# Altium integrated library Microchip Microcontroller 8-Bit PIC16 2.IntLib: 1656 symbols (part 44 of 56)
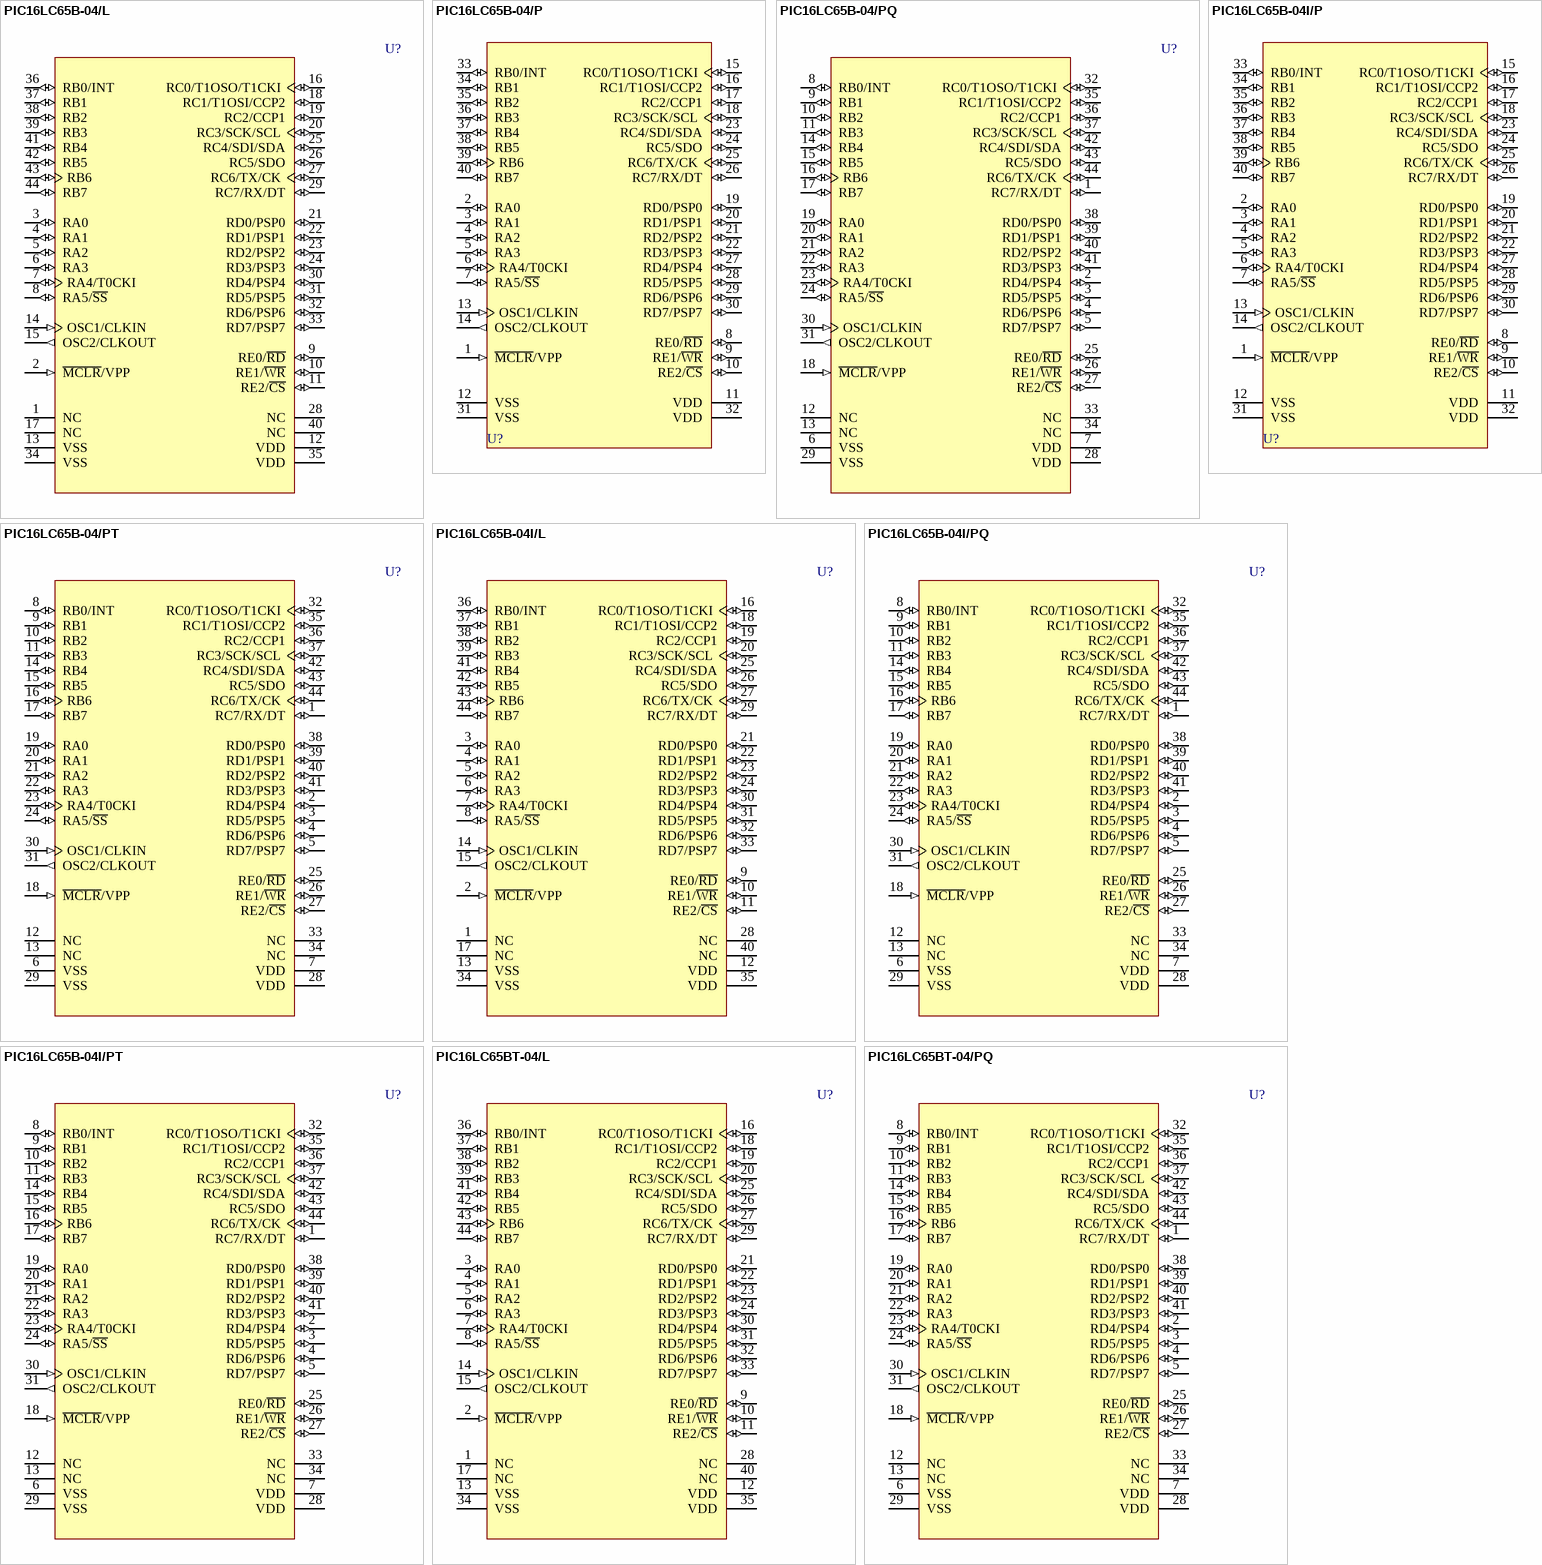
[diagram p151: symbols PIC16LC65B-04/L to PIC16LC65BT-04/PQ]

## PIC16LC65B-04/L
designator U?
8-Bit CMOS Microcontroller, 192 Bytes RAM, 33 I/O Pins, 4 MHz, 44-Pin PLCC, Extended VDD Range, Commercial Temperature; Note: Verify oscillator characteristics if changing from this device to another.; Note: 2.5 to 5.5V Supply Range in XT, RC and LP osc modes.; Note: 25mA source/sink per I/O.; Published: 11-Oct-2004; LatestRevisionDate: 13-Apr-2006; LatestRevisionNote: IPC-7351 Footprint Added.; DatasheetVersion: DS30605C_2000; PackageVersion: 2003; PackageReference: PLCC-44; Publisher: Altium Limited; PackageDescription: 44-Pin Leaded Chip Carrier 1.27 mm Pitch; Code_JEDEC: MO-047; Code_IPC: PLCC-44; ComponentLink1Description: Manufacturer Link; ComponentLink1URL: http://www.microchip.com; ComponentLink2Description: Datasheet; ComponentLink2URL: http://ww1.microchip.com/downloads/en/DeviceDoc/30605c.pdf; ComponentLink3Description: Packaging Specification; ComponentLink3URL: http://ww1.microchip.com/downloads/en/PackagingSpec/00049AD.pdf
footprint PLCC-44_N (Leaded Chip Carrier, 44-Leads, Body 16.6x16.6mm, Pitch 1.27mm, IPC Medium Density)
footprint PLCC-44_L (Leaded Chip Carrier, 44-Leads, Body 16.6x16.6mm, Pitch 1.27mm, IPC High Density)
footprint PLCC-44_M (Leaded Chip Carrier, 44-Leads, Body 16.6x16.6mm, Pitch 1.27mm, IPC Low Density)
3D model PIC16LC65B-PLCC-44 (44-Pin Leaded Chip Carrier 1.27 mm Pitch)
pins: 1 NC, 2 ~{MCLR}/VPP (in), 3 RA0 (io), 4 RA1 (io), 5 RA2 (io), 6 RA3 (io), 7 RA4/T0CKI (io), 8 RA5/~{SS} (io), 9 RE0/~{RD} (io), 10 RE1/~{WR} (io), 11 RE2/~{CS} (io), 12 VDD (power), 13 VSS (power), 14 OSC1/CLKIN (in), 15 OSC2/CLKOUT (out), 16 RC0/T1OSO/T1CKI (io), 17 NC, 18 RC1/T1OSI/CCP2 (io), 19 RC2/CCP1 (io), 20 RC3/SCK/SCL (io), 21 RD0/PSP0 (io), 22 RD1/PSP1 (io), 23 RD2/PSP2 (io), 24 RD3/PSP3 (io), 25 RC4/SDI/SDA (io), 26 RC5/SDO (io), 27 RC6/TX/CK (io), 28 NC, 29 RC7/RX/DT (io), 30 RD4/PSP4 (io), 31 RD5/PSP5 (io), 32 RD6/PSP6 (io), 33 RD7/PSP7 (io), 34 VSS (power), 35 VDD (power), 36 RB0/INT (io), 37 RB1 (io), 38 RB2 (io), 39 RB3 (io), 40 NC, 41 RB4 (io), 42 RB5 (io), 43 RB6 (io), 44 RB7 (io)

## PIC16LC65B-04/P
designator U?
8-Bit CMOS Microcontroller, 192 Bytes RAM, 33 I/O Pins, 4 MHz, 40-Pin PDIP, Extended VDD Range, Commercial Temperature; Note: Verify oscillator characteristics if changing from this device to another.; Note: 2.5 to 5.5V Supply Range in XT, RC and LP osc modes.; Note: 25mA source/sink per I/O.; Published: 11-Oct-2004; LatestRevisionDate: 04-Mar-2005; LatestRevisionNote: Stylized 3D Model Added.; DatasheetVersion: DS30605C_2000; PackageVersion: 2003; PackageReference: PDIP600-40; Publisher: Altium Limited; PackageDescription: DIP, Plastic; 40 Leads; Row Spacing 15.24 mm; Pitch 2.54 mm; Code_JEDEC: MO-011; ComponentLink1Description: Manufacturer Link; ComponentLink1URL: http://www.microchip.com; ComponentLink2Description: Datasheet; ComponentLink2URL: http://ww1.microchip.com/downloads/en/DeviceDoc/30605c.pdf; ComponentLink3Description: Packaging Specification; ComponentLink3URL: http://ww1.microchip.com/downloads/en/PackagingSpec/00049AD.pdf
footprint PDIP600-40 (DIP, Plastic; 40 Leads; Row Spacing 15.24 mm; Pitch 2.54 mm)
3D model PDIP600-40 (DIP, Plastic; 40 Leads; Row Spacing 15.24 mm; Pitch 2.54 mm)
pins: 1 ~{MCLR}/VPP (in), 2 RA0 (io), 3 RA1 (io), 4 RA2 (io), 5 RA3 (io), 6 RA4/T0CKI (io), 7 RA5/~{SS} (io), 8 RE0/~{RD} (io), 9 RE1/~{WR} (io), 10 RE2/~{CS} (io), 11 VDD (power), 12 VSS (power), 13 OSC1/CLKIN (in), 14 OSC2/CLKOUT (out), 15 RC0/T1OSO/T1CKI (io), 16 RC1/T1OSI/CCP2 (io), 17 RC2/CCP1 (io), 18 RC3/SCK/SCL (io), 19 RD0/PSP0 (io), 20 RD1/PSP1 (io), 21 RD2/PSP2 (io), 22 RD3/PSP3 (io), 23 RC4/SDI/SDA (io), 24 RC5/SDO (io), 25 RC6/TX/CK (io), 26 RC7/RX/DT (io), 27 RD4/PSP4 (io), 28 RD5/PSP5 (io), 29 RD6/PSP6 (io), 30 RD7/PSP7 (io), 31 VSS (power), 32 VDD (power), 33 RB0/INT (io), 34 RB1 (io), 35 RB2 (io), 36 RB3 (io), 37 RB4 (io), 38 RB5 (io), 39 RB6 (io), 40 RB7 (io)

## PIC16LC65B-04/PQ
designator U?
8-Bit CMOS Microcontroller, 192 Bytes RAM, 33 I/O Pins, 4 MHz, 44-Pin MQFP, Extended VDD Range, Commercial Temperature; Note: Verify oscillator characteristics if changing from this device to another.; Note: 2.5 to 5.5V Supply Range in XT, RC and LP osc modes.; Note: 25mA source/sink per I/O.; Published: 11-Oct-2004; LatestRevisionDate: 13-Apr-2006; LatestRevisionNote: IPC-7351 Footprint Added.; DatasheetVersion: DS30605C_2000; PackageVersion: 2003; PackageReference: MQFP-44; Publisher: Altium Limited; PackageDescription: 44-Pin Plastic Metric Quad Flat Pack 0.8 mm Pitch, 1.6/0.15 mm Lead Form; Code_JEDEC: MS-022; Code_IPC: QFP80P1320X1320-44; ComponentLink1Description: Manufacturer Link; ComponentLink1URL: http://www.microchip.com; ComponentLink2Description: Datasheet; ComponentLink2URL: http://ww1.microchip.com/downloads/en/DeviceDoc/30605c.pdf; ComponentLink3Description: Packaging Specification; ComponentLink3URL: http://ww1.microchip.com/downloads/en/PackagingSpec/00049AD.pdf
footprint MQFP-44_N (QFP, 44-Leads, Body 10x10mm, Pitch 0.8mm, IPC Medium Density)
footprint MQFP-44_L (QFP, 44-Leads, Body 10x10mm, Pitch 0.8mm, IPC High Density)
footprint MQFP-44_M (QFP, 44-Leads, Body 10x10mm, Pitch 0.8mm, IPC Low Density)
3D model PIC16LC65B-MQFP-44 (44-Pin Plastic Metric Quad Flat Pack 0.8 mm Pitch, 1.6/0.15 mm Lead Form)
pins: 1 RC7/RX/DT (io), 2 RD4/PSP4 (io), 3 RD5/PSP5 (io), 4 RD6/PSP6 (io), 5 RD7/PSP7 (io), 6 VSS (power), 7 VDD (power), 8 RB0/INT (io), 9 RB1 (io), 10 RB2 (io), 11 RB3 (io), 12 NC, 13 NC, 14 RB4 (io), 15 RB5 (io), 16 RB6 (io), 17 RB7 (io), 18 ~{MCLR}/VPP (in), 19 RA0 (io), 20 RA1 (io), 21 RA2 (io), 22 RA3 (io), 23 RA4/T0CKI (io), 24 RA5/~{SS} (io), 25 RE0/~{RD} (io), 26 RE1/~{WR} (io), 27 RE2/~{CS} (io), 28 VDD (power), 29 VSS (power), 30 OSC1/CLKIN (in), 31 OSC2/CLKOUT (out), 32 RC0/T1OSO/T1CKI (io), 33 NC, 34 NC, 35 RC1/T1OSI/CCP2 (io), 36 RC2/CCP1 (io), 37 RC3/SCK/SCL (io), 38 RD0/PSP0 (io), 39 RD1/PSP1 (io), 40 RD2/PSP2 (io), 41 RD3/PSP3 (io), 42 RC4/SDI/SDA (io), 43 RC5/SDO (io), 44 RC6/TX/CK (io)

## PIC16LC65B-04/PT
designator U?
8-Bit CMOS Microcontroller, 192 Bytes RAM, 33 I/O Pins, 4 MHz, 44-Pin TQFP, Extended VDD Range, Commercial Temperature; Note: Verify oscillator characteristics if changing from this device to another.; Note: 2.5 to 5.5V Supply Range in XT, RC and LP osc modes.; Note: 25mA source/sink per I/O.; Published: 11-Oct-2004; LatestRevisionDate: 13-Apr-2006; LatestRevisionNote: IPC-7351 Footprint Added.; DatasheetVersion: DS30605C_2000; PackageVersion: 2003; PackageReference: TQFP-44; Publisher: Altium Limited; PackageDescription: 44-Pin Thin Quad Flat Pack 0.8 mm Pitch, 1.0/0.1 mm Lead Form; Code_JEDEC: MS-026; ComponentLink1Description: Manufacturer Link; ComponentLink1URL: http://www.microchip.com; ComponentLink2Description: Datasheet; ComponentLink2URL: http://ww1.microchip.com/downloads/en/DeviceDoc/30605c.pdf; ComponentLink3Description: Packaging Specification; ComponentLink3URL: http://ww1.microchip.com/downloads/en/PackagingSpec/00049AD.pdf
footprint TQFP-44_N (Thin QFP, 44-Leads, Body 10x10mm, Pitch 0.8mm, IPC Medium Density)
footprint TQFP-44_L (Thin QFP, 44-Leads, Body 10x10mm, Pitch 0.8mm, IPC High Density)
footprint TQFP-44_M (Thin QFP, 44-Leads, Body 10x10mm, Pitch 0.8mm, IPC Low Density)
3D model PIC16LC65B-TQFP-44 (44-Pin Thin Quad Flat Pack 0.8 mm Pitch, 1.0/0.1 mm Lead Form)
pins: 1 RC7/RX/DT (io), 2 RD4/PSP4 (io), 3 RD5/PSP5 (io), 4 RD6/PSP6 (io), 5 RD7/PSP7 (io), 6 VSS (power), 7 VDD (power), 8 RB0/INT (io), 9 RB1 (io), 10 RB2 (io), 11 RB3 (io), 12 NC, 13 NC, 14 RB4 (io), 15 RB5 (io), 16 RB6 (io), 17 RB7 (io), 18 ~{MCLR}/VPP (in), 19 RA0 (io), 20 RA1 (io), 21 RA2 (io), 22 RA3 (io), 23 RA4/T0CKI (io), 24 RA5/~{SS} (io), 25 RE0/~{RD} (io), 26 RE1/~{WR} (io), 27 RE2/~{CS} (io), 28 VDD (power), 29 VSS (power), 30 OSC1/CLKIN (in), 31 OSC2/CLKOUT (out), 32 RC0/T1OSO/T1CKI (io), 33 NC, 34 NC, 35 RC1/T1OSI/CCP2 (io), 36 RC2/CCP1 (io), 37 RC3/SCK/SCL (io), 38 RD0/PSP0 (io), 39 RD1/PSP1 (io), 40 RD2/PSP2 (io), 41 RD3/PSP3 (io), 42 RC4/SDI/SDA (io), 43 RC5/SDO (io), 44 RC6/TX/CK (io)

## PIC16LC65B-04I/L
designator U?
8-Bit CMOS Microcontroller, 192 Bytes RAM, 33 I/O Pins, 4 MHz, 44-Pin PLCC, Extended VDD Range, Industrial Temperature; Note: Verify oscillator characteristics if changing from this device to another.; Note: 2.5 to 5.5V Supply Range in XT, RC and LP osc modes.; Note: 25mA source/sink per I/O.; Published: 11-Oct-2004; LatestRevisionDate: 13-Apr-2006; LatestRevisionNote: IPC-7351 Footprint Added.; DatasheetVersion: DS30605C_2000; PackageVersion: 2003; PackageReference: PLCC-44; Publisher: Altium Limited; PackageDescription: 44-Pin Leaded Chip Carrier 1.27 mm Pitch; Code_JEDEC: MO-047; Code_IPC: PLCC-44; ComponentLink1Description: Manufacturer Link; ComponentLink1URL: http://www.microchip.com; ComponentLink2Description: Datasheet; ComponentLink2URL: http://ww1.microchip.com/downloads/en/DeviceDoc/30605c.pdf; ComponentLink3Description: Packaging Specification; ComponentLink3URL: http://ww1.microchip.com/downloads/en/PackagingSpec/00049AD.pdf
footprint PLCC-44_N (Leaded Chip Carrier, 44-Leads, Body 16.6x16.6mm, Pitch 1.27mm, IPC Medium Density)
footprint PLCC-44_L (Leaded Chip Carrier, 44-Leads, Body 16.6x16.6mm, Pitch 1.27mm, IPC High Density)
footprint PLCC-44_M (Leaded Chip Carrier, 44-Leads, Body 16.6x16.6mm, Pitch 1.27mm, IPC Low Density)
3D model PIC16LC65B-PLCC-44 (44-Pin Leaded Chip Carrier 1.27 mm Pitch)
pins: 1 NC, 2 ~{MCLR}/VPP (in), 3 RA0 (io), 4 RA1 (io), 5 RA2 (io), 6 RA3 (io), 7 RA4/T0CKI (io), 8 RA5/~{SS} (io), 9 RE0/~{RD} (io), 10 RE1/~{WR} (io), 11 RE2/~{CS} (io), 12 VDD (power), 13 VSS (power), 14 OSC1/CLKIN (in), 15 OSC2/CLKOUT (out), 16 RC0/T1OSO/T1CKI (io), 17 NC, 18 RC1/T1OSI/CCP2 (io), 19 RC2/CCP1 (io), 20 RC3/SCK/SCL (io), 21 RD0/PSP0 (io), 22 RD1/PSP1 (io), 23 RD2/PSP2 (io), 24 RD3/PSP3 (io), 25 RC4/SDI/SDA (io), 26 RC5/SDO (io), 27 RC6/TX/CK (io), 28 NC, 29 RC7/RX/DT (io), 30 RD4/PSP4 (io), 31 RD5/PSP5 (io), 32 RD6/PSP6 (io), 33 RD7/PSP7 (io), 34 VSS (power), 35 VDD (power), 36 RB0/INT (io), 37 RB1 (io), 38 RB2 (io), 39 RB3 (io), 40 NC, 41 RB4 (io), 42 RB5 (io), 43 RB6 (io), 44 RB7 (io)

## PIC16LC65B-04I/P
designator U?
8-Bit CMOS Microcontroller, 192 Bytes RAM, 33 I/O Pins, 4 MHz, 40-Pin PDIP, Extended VDD Range, Industrial Temperature; Note: Verify oscillator characteristics if changing from this device to another.; Note: 2.5 to 5.5V Supply Range in XT, RC and LP osc modes.; Note: 25mA source/sink per I/O.; Published: 11-Oct-2004; LatestRevisionDate: 04-Mar-2005; LatestRevisionNote: Stylized 3D Model Added.; DatasheetVersion: DS30605C_2000; PackageVersion: 2003; PackageReference: PDIP600-40; Publisher: Altium Limited; PackageDescription: DIP, Plastic; 40 Leads; Row Spacing 15.24 mm; Pitch 2.54 mm; Code_JEDEC: MO-011; ComponentLink1Description: Manufacturer Link; ComponentLink1URL: http://www.microchip.com; ComponentLink2Description: Datasheet; ComponentLink2URL: http://ww1.microchip.com/downloads/en/DeviceDoc/30605c.pdf; ComponentLink3Description: Packaging Specification; ComponentLink3URL: http://ww1.microchip.com/downloads/en/PackagingSpec/00049AD.pdf
footprint PDIP600-40 (DIP, Plastic; 40 Leads; Row Spacing 15.24 mm; Pitch 2.54 mm)
3D model PDIP600-40 (DIP, Plastic; 40 Leads; Row Spacing 15.24 mm; Pitch 2.54 mm)
pins: 1 ~{MCLR}/VPP (in), 2 RA0 (io), 3 RA1 (io), 4 RA2 (io), 5 RA3 (io), 6 RA4/T0CKI (io), 7 RA5/~{SS} (io), 8 RE0/~{RD} (io), 9 RE1/~{WR} (io), 10 RE2/~{CS} (io), 11 VDD (power), 12 VSS (power), 13 OSC1/CLKIN (in), 14 OSC2/CLKOUT (out), 15 RC0/T1OSO/T1CKI (io), 16 RC1/T1OSI/CCP2 (io), 17 RC2/CCP1 (io), 18 RC3/SCK/SCL (io), 19 RD0/PSP0 (io), 20 RD1/PSP1 (io), 21 RD2/PSP2 (io), 22 RD3/PSP3 (io), 23 RC4/SDI/SDA (io), 24 RC5/SDO (io), 25 RC6/TX/CK (io), 26 RC7/RX/DT (io), 27 RD4/PSP4 (io), 28 RD5/PSP5 (io), 29 RD6/PSP6 (io), 30 RD7/PSP7 (io), 31 VSS (power), 32 VDD (power), 33 RB0/INT (io), 34 RB1 (io), 35 RB2 (io), 36 RB3 (io), 37 RB4 (io), 38 RB5 (io), 39 RB6 (io), 40 RB7 (io)

## PIC16LC65B-04I/PQ
designator U?
8-Bit CMOS Microcontroller, 192 Bytes RAM, 33 I/O Pins, 4 MHz, 44-Pin MQFP, Extended VDD Range, Industrial Temperature; Note: Verify oscillator characteristics if changing from this device to another.; Note: 2.5 to 5.5V Supply Range in XT, RC and LP osc modes.; Note: 25mA source/sink per I/O.; Published: 11-Oct-2004; LatestRevisionDate: 13-Apr-2006; LatestRevisionNote: IPC-7351 Footprint Added.; DatasheetVersion: DS30605C_2000; PackageVersion: 2003; PackageReference: MQFP-44; Publisher: Altium Limited; PackageDescription: 44-Pin Plastic Metric Quad Flat Pack 0.8 mm Pitch, 1.6/0.15 mm Lead Form; Code_JEDEC: MS-022; Code_IPC: QFP80P1320X1320-44; ComponentLink1Description: Manufacturer Link; ComponentLink1URL: http://www.microchip.com; ComponentLink2Description: Datasheet; ComponentLink2URL: http://ww1.microchip.com/downloads/en/DeviceDoc/30605c.pdf; ComponentLink3Description: Packaging Specification; ComponentLink3URL: http://ww1.microchip.com/downloads/en/PackagingSpec/00049AD.pdf
footprint MQFP-44_N (QFP, 44-Leads, Body 10x10mm, Pitch 0.8mm, IPC Medium Density)
footprint MQFP-44_L (QFP, 44-Leads, Body 10x10mm, Pitch 0.8mm, IPC High Density)
footprint MQFP-44_M (QFP, 44-Leads, Body 10x10mm, Pitch 0.8mm, IPC Low Density)
3D model PIC16LC65B-MQFP-44 (44-Pin Plastic Metric Quad Flat Pack 0.8 mm Pitch, 1.6/0.15 mm Lead Form)
pins: 1 RC7/RX/DT (io), 2 RD4/PSP4 (io), 3 RD5/PSP5 (io), 4 RD6/PSP6 (io), 5 RD7/PSP7 (io), 6 VSS (power), 7 VDD (power), 8 RB0/INT (io), 9 RB1 (io), 10 RB2 (io), 11 RB3 (io), 12 NC, 13 NC, 14 RB4 (io), 15 RB5 (io), 16 RB6 (io), 17 RB7 (io), 18 ~{MCLR}/VPP (in), 19 RA0 (io), 20 RA1 (io), 21 RA2 (io), 22 RA3 (io), 23 RA4/T0CKI (io), 24 RA5/~{SS} (io), 25 RE0/~{RD} (io), 26 RE1/~{WR} (io), 27 RE2/~{CS} (io), 28 VDD (power), 29 VSS (power), 30 OSC1/CLKIN (in), 31 OSC2/CLKOUT (out), 32 RC0/T1OSO/T1CKI (io), 33 NC, 34 NC, 35 RC1/T1OSI/CCP2 (io), 36 RC2/CCP1 (io), 37 RC3/SCK/SCL (io), 38 RD0/PSP0 (io), 39 RD1/PSP1 (io), 40 RD2/PSP2 (io), 41 RD3/PSP3 (io), 42 RC4/SDI/SDA (io), 43 RC5/SDO (io), 44 RC6/TX/CK (io)

## PIC16LC65B-04I/PT
designator U?
8-Bit CMOS Microcontroller, 192 Bytes RAM, 33 I/O Pins, 4 MHz, 44-Pin TQFP, Extended VDD Range, Industrial Temperature; Note: Verify oscillator characteristics if changing from this device to another.; Note: 2.5 to 5.5V Supply Range in XT, RC and LP osc modes.; Note: 25mA source/sink per I/O.; Published: 11-Oct-2004; LatestRevisionDate: 13-Apr-2006; LatestRevisionNote: IPC-7351 Footprint Added.; DatasheetVersion: DS30605C_2000; PackageVersion: 2003; PackageReference: TQFP-44; Publisher: Altium Limited; PackageDescription: 44-Pin Thin Quad Flat Pack 0.8 mm Pitch, 1.0/0.1 mm Lead Form; Code_JEDEC: MS-026; ComponentLink1Description: Manufacturer Link; ComponentLink1URL: http://www.microchip.com; ComponentLink2Description: Datasheet; ComponentLink2URL: http://ww1.microchip.com/downloads/en/DeviceDoc/30605c.pdf; ComponentLink3Description: Packaging Specification; ComponentLink3URL: http://ww1.microchip.com/downloads/en/PackagingSpec/00049AD.pdf
footprint TQFP-44_N (Thin QFP, 44-Leads, Body 10x10mm, Pitch 0.8mm, IPC Medium Density)
footprint TQFP-44_L (Thin QFP, 44-Leads, Body 10x10mm, Pitch 0.8mm, IPC High Density)
footprint TQFP-44_M (Thin QFP, 44-Leads, Body 10x10mm, Pitch 0.8mm, IPC Low Density)
3D model PIC16LC65B-TQFP-44 (44-Pin Thin Quad Flat Pack 0.8 mm Pitch, 1.0/0.1 mm Lead Form)
pins: 1 RC7/RX/DT (io), 2 RD4/PSP4 (io), 3 RD5/PSP5 (io), 4 RD6/PSP6 (io), 5 RD7/PSP7 (io), 6 VSS (power), 7 VDD (power), 8 RB0/INT (io), 9 RB1 (io), 10 RB2 (io), 11 RB3 (io), 12 NC, 13 NC, 14 RB4 (io), 15 RB5 (io), 16 RB6 (io), 17 RB7 (io), 18 ~{MCLR}/VPP (in), 19 RA0 (io), 20 RA1 (io), 21 RA2 (io), 22 RA3 (io), 23 RA4/T0CKI (io), 24 RA5/~{SS} (io), 25 RE0/~{RD} (io), 26 RE1/~{WR} (io), 27 RE2/~{CS} (io), 28 VDD (power), 29 VSS (power), 30 OSC1/CLKIN (in), 31 OSC2/CLKOUT (out), 32 RC0/T1OSO/T1CKI (io), 33 NC, 34 NC, 35 RC1/T1OSI/CCP2 (io), 36 RC2/CCP1 (io), 37 RC3/SCK/SCL (io), 38 RD0/PSP0 (io), 39 RD1/PSP1 (io), 40 RD2/PSP2 (io), 41 RD3/PSP3 (io), 42 RC4/SDI/SDA (io), 43 RC5/SDO (io), 44 RC6/TX/CK (io)

## PIC16LC65BT-04/L
designator U?
8-Bit CMOS Microcontroller, 192 Bytes RAM, 33 I/O Pins, 4 MHz, 44-Pin PLCC, Extended VDD Range, Commercial Temperature, Tape and Reel; Note: Verify oscillator characteristics if changing from this device to another.; Note: 2.5 to 5.5V Supply Range in XT, RC and LP osc modes.; Note: 25mA source/sink per I/O.; Published: 11-Oct-2004; LatestRevisionDate: 13-Apr-2006; LatestRevisionNote: IPC-7351 Footprint Added.; DatasheetVersion: DS30605C_2000; PackageVersion: 2003; PackageReference: PLCC-44; Publisher: Altium Limited; PackageDescription: 44-Pin Leaded Chip Carrier 1.27 mm Pitch; Code_JEDEC: MO-047; Code_IPC: PLCC-44; ComponentLink1Description: Manufacturer Link; ComponentLink1URL: http://www.microchip.com; ComponentLink2Description: Datasheet; ComponentLink2URL: http://ww1.microchip.com/downloads/en/DeviceDoc/30605c.pdf; ComponentLink3Description: Packaging Specification; ComponentLink3URL: http://ww1.microchip.com/downloads/en/PackagingSpec/00049AD.pdf
footprint PLCC-44_N (Leaded Chip Carrier, 44-Leads, Body 16.6x16.6mm, Pitch 1.27mm, IPC Medium Density)
footprint PLCC-44_L (Leaded Chip Carrier, 44-Leads, Body 16.6x16.6mm, Pitch 1.27mm, IPC High Density)
footprint PLCC-44_M (Leaded Chip Carrier, 44-Leads, Body 16.6x16.6mm, Pitch 1.27mm, IPC Low Density)
3D model PIC16LC65B-PLCC-44 (44-Pin Leaded Chip Carrier 1.27 mm Pitch)
pins: 1 NC, 2 ~{MCLR}/VPP (in), 3 RA0 (io), 4 RA1 (io), 5 RA2 (io), 6 RA3 (io), 7 RA4/T0CKI (io), 8 RA5/~{SS} (io), 9 RE0/~{RD} (io), 10 RE1/~{WR} (io), 11 RE2/~{CS} (io), 12 VDD (power), 13 VSS (power), 14 OSC1/CLKIN (in), 15 OSC2/CLKOUT (out), 16 RC0/T1OSO/T1CKI (io), 17 NC, 18 RC1/T1OSI/CCP2 (io), 19 RC2/CCP1 (io), 20 RC3/SCK/SCL (io), 21 RD0/PSP0 (io), 22 RD1/PSP1 (io), 23 RD2/PSP2 (io), 24 RD3/PSP3 (io), 25 RC4/SDI/SDA (io), 26 RC5/SDO (io), 27 RC6/TX/CK (io), 28 NC, 29 RC7/RX/DT (io), 30 RD4/PSP4 (io), 31 RD5/PSP5 (io), 32 RD6/PSP6 (io), 33 RD7/PSP7 (io), 34 VSS (power), 35 VDD (power), 36 RB0/INT (io), 37 RB1 (io), 38 RB2 (io), 39 RB3 (io), 40 NC, 41 RB4 (io), 42 RB5 (io), 43 RB6 (io), 44 RB7 (io)

## PIC16LC65BT-04/PQ
designator U?
8-Bit CMOS Microcontroller, 192 Bytes RAM, 33 I/O Pins, 4 MHz, 44-Pin MQFP, Extended VDD Range, Commercial Temperature, Tape and Reel; Note: Verify oscillator characteristics if changing from this device to another.; Note: 2.5 to 5.5V Supply Range in XT, RC and LP osc modes.; Note: 25mA source/sink per I/O.; Published: 11-Oct-2004; LatestRevisionDate: 13-Apr-2006; LatestRevisionNote: IPC-7351 Footprint Added.; DatasheetVersion: DS30605C_2000; PackageVersion: 2003; PackageReference: MQFP-44; Publisher: Altium Limited; PackageDescription: 44-Pin Plastic Metric Quad Flat Pack 0.8 mm Pitch, 1.6/0.15 mm Lead Form; Code_JEDEC: MS-022; Code_IPC: QFP80P1320X1320-44; ComponentLink1Description: Manufacturer Link; ComponentLink1URL: http://www.microchip.com; ComponentLink2Description: Datasheet; ComponentLink2URL: http://ww1.microchip.com/downloads/en/DeviceDoc/30605c.pdf; ComponentLink3Description: Packaging Specification; ComponentLink3URL: http://ww1.microchip.com/downloads/en/PackagingSpec/00049AD.pdf
footprint MQFP-44_N (QFP, 44-Leads, Body 10x10mm, Pitch 0.8mm, IPC Medium Density)
footprint MQFP-44_L (QFP, 44-Leads, Body 10x10mm, Pitch 0.8mm, IPC High Density)
footprint MQFP-44_M (QFP, 44-Leads, Body 10x10mm, Pitch 0.8mm, IPC Low Density)
3D model PIC16LC65B-MQFP-44 (44-Pin Plastic Metric Quad Flat Pack 0.8 mm Pitch, 1.6/0.15 mm Lead Form)
pins: 1 RC7/RX/DT (io), 2 RD4/PSP4 (io), 3 RD5/PSP5 (io), 4 RD6/PSP6 (io), 5 RD7/PSP7 (io), 6 VSS (power), 7 VDD (power), 8 RB0/INT (io), 9 RB1 (io), 10 RB2 (io), 11 RB3 (io), 12 NC, 13 NC, 14 RB4 (io), 15 RB5 (io), 16 RB6 (io), 17 RB7 (io), 18 ~{MCLR}/VPP (in), 19 RA0 (io), 20 RA1 (io), 21 RA2 (io), 22 RA3 (io), 23 RA4/T0CKI (io), 24 RA5/~{SS} (io), 25 RE0/~{RD} (io), 26 RE1/~{WR} (io), 27 RE2/~{CS} (io), 28 VDD (power), 29 VSS (power), 30 OSC1/CLKIN (in), 31 OSC2/CLKOUT (out), 32 RC0/T1OSO/T1CKI (io), 33 NC, 34 NC, 35 RC1/T1OSI/CCP2 (io), 36 RC2/CCP1 (io), 37 RC3/SCK/SCL (io), 38 RD0/PSP0 (io), 39 RD1/PSP1 (io), 40 RD2/PSP2 (io), 41 RD3/PSP3 (io), 42 RC4/SDI/SDA (io), 43 RC5/SDO (io), 44 RC6/TX/CK (io)

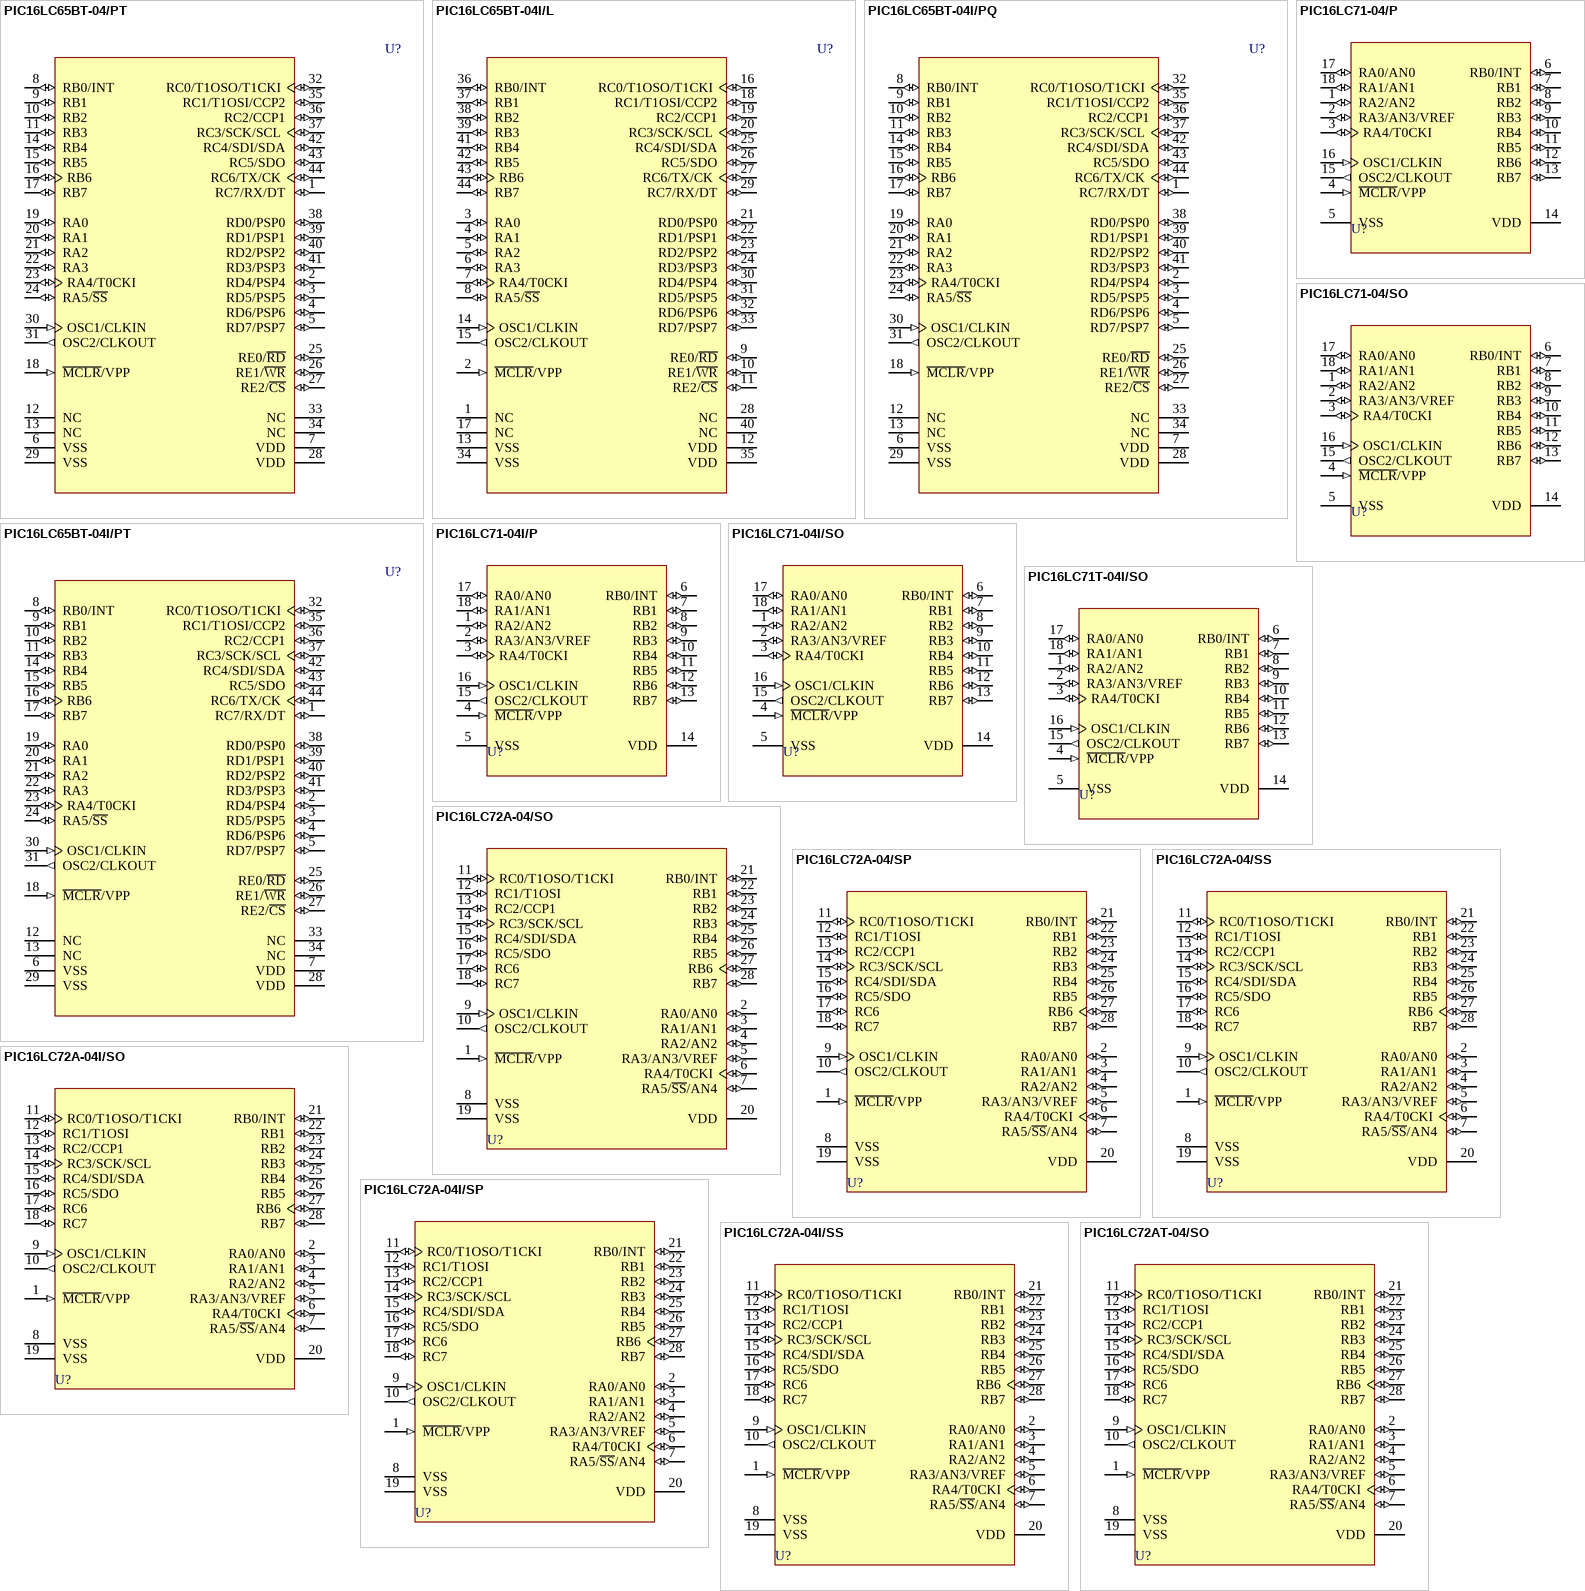
[diagram p87: symbols PIC16LC65BT-04/PT to PIC16LC72AT-04/SO]

## PIC16LC65BT-04/PT
designator U?
8-Bit CMOS Microcontroller, 192 Bytes RAM, 33 I/O Pins, 4 MHz, 44-Pin TQFP, Extended VDD Range, Commercial Temperature, Tape and Reel; Note: Verify oscillator characteristics if changing from this device to another.; Note: 2.5 to 5.5V Supply Range in XT, RC and LP osc modes.; Note: 25mA source/sink per I/O.; Published: 11-Oct-2004; LatestRevisionDate: 13-Apr-2006; LatestRevisionNote: IPC-7351 Footprint Added.; DatasheetVersion: DS30605C_2000; PackageVersion: 2003; PackageReference: TQFP-44; Publisher: Altium Limited; PackageDescription: 44-Pin Thin Quad Flat Pack 0.8 mm Pitch, 1.0/0.1 mm Lead Form; Code_JEDEC: MS-026; ComponentLink1Description: Manufacturer Link; ComponentLink1URL: http://www.microchip.com; ComponentLink2Description: Datasheet; ComponentLink2URL: http://ww1.microchip.com/downloads/en/DeviceDoc/30605c.pdf; ComponentLink3Description: Packaging Specification; ComponentLink3URL: http://ww1.microchip.com/downloads/en/PackagingSpec/00049AD.pdf
footprint TQFP-44_N (Thin QFP, 44-Leads, Body 10x10mm, Pitch 0.8mm, IPC Medium Density)
footprint TQFP-44_L (Thin QFP, 44-Leads, Body 10x10mm, Pitch 0.8mm, IPC High Density)
footprint TQFP-44_M (Thin QFP, 44-Leads, Body 10x10mm, Pitch 0.8mm, IPC Low Density)
3D model PIC16LC65B-TQFP-44 (44-Pin Thin Quad Flat Pack 0.8 mm Pitch, 1.0/0.1 mm Lead Form)
pins: 1 RC7/RX/DT (io), 2 RD4/PSP4 (io), 3 RD5/PSP5 (io), 4 RD6/PSP6 (io), 5 RD7/PSP7 (io), 6 VSS (power), 7 VDD (power), 8 RB0/INT (io), 9 RB1 (io), 10 RB2 (io), 11 RB3 (io), 12 NC, 13 NC, 14 RB4 (io), 15 RB5 (io), 16 RB6 (io), 17 RB7 (io), 18 ~{MCLR}/VPP (in), 19 RA0 (io), 20 RA1 (io), 21 RA2 (io), 22 RA3 (io), 23 RA4/T0CKI (io), 24 RA5/~{SS} (io), 25 RE0/~{RD} (io), 26 RE1/~{WR} (io), 27 RE2/~{CS} (io), 28 VDD (power), 29 VSS (power), 30 OSC1/CLKIN (in), 31 OSC2/CLKOUT (out), 32 RC0/T1OSO/T1CKI (io), 33 NC, 34 NC, 35 RC1/T1OSI/CCP2 (io), 36 RC2/CCP1 (io), 37 RC3/SCK/SCL (io), 38 RD0/PSP0 (io), 39 RD1/PSP1 (io), 40 RD2/PSP2 (io), 41 RD3/PSP3 (io), 42 RC4/SDI/SDA (io), 43 RC5/SDO (io), 44 RC6/TX/CK (io)

## PIC16LC65BT-04I/L
designator U?
8-Bit CMOS Microcontroller, 192 Bytes RAM, 33 I/O Pins, 4 MHz, 44-Pin PLCC, Extended VDD Range, Industrial Temperature, Tape and Reel; Note: Verify oscillator characteristics if changing from this device to another.; Note: 2.5 to 5.5V Supply Range in XT, RC and LP osc modes.; Note: 25mA source/sink per I/O.; Published: 11-Oct-2004; LatestRevisionDate: 13-Apr-2006; LatestRevisionNote: IPC-7351 Footprint Added.; DatasheetVersion: DS30605C_2000; PackageVersion: 2003; PackageReference: PLCC-44; Publisher: Altium Limited; PackageDescription: 44-Pin Leaded Chip Carrier 1.27 mm Pitch; Code_JEDEC: MO-047; Code_IPC: PLCC-44; ComponentLink1Description: Manufacturer Link; ComponentLink1URL: http://www.microchip.com; ComponentLink2Description: Datasheet; ComponentLink2URL: http://ww1.microchip.com/downloads/en/DeviceDoc/30605c.pdf; ComponentLink3Description: Packaging Specification; ComponentLink3URL: http://ww1.microchip.com/downloads/en/PackagingSpec/00049AD.pdf
footprint PLCC-44_N (Leaded Chip Carrier, 44-Leads, Body 16.6x16.6mm, Pitch 1.27mm, IPC Medium Density)
footprint PLCC-44_L (Leaded Chip Carrier, 44-Leads, Body 16.6x16.6mm, Pitch 1.27mm, IPC High Density)
footprint PLCC-44_M (Leaded Chip Carrier, 44-Leads, Body 16.6x16.6mm, Pitch 1.27mm, IPC Low Density)
3D model PIC16LC65B-PLCC-44 (44-Pin Leaded Chip Carrier 1.27 mm Pitch)
pins: 1 NC, 2 ~{MCLR}/VPP (in), 3 RA0 (io), 4 RA1 (io), 5 RA2 (io), 6 RA3 (io), 7 RA4/T0CKI (io), 8 RA5/~{SS} (io), 9 RE0/~{RD} (io), 10 RE1/~{WR} (io), 11 RE2/~{CS} (io), 12 VDD (power), 13 VSS (power), 14 OSC1/CLKIN (in), 15 OSC2/CLKOUT (out), 16 RC0/T1OSO/T1CKI (io), 17 NC, 18 RC1/T1OSI/CCP2 (io), 19 RC2/CCP1 (io), 20 RC3/SCK/SCL (io), 21 RD0/PSP0 (io), 22 RD1/PSP1 (io), 23 RD2/PSP2 (io), 24 RD3/PSP3 (io), 25 RC4/SDI/SDA (io), 26 RC5/SDO (io), 27 RC6/TX/CK (io), 28 NC, 29 RC7/RX/DT (io), 30 RD4/PSP4 (io), 31 RD5/PSP5 (io), 32 RD6/PSP6 (io), 33 RD7/PSP7 (io), 34 VSS (power), 35 VDD (power), 36 RB0/INT (io), 37 RB1 (io), 38 RB2 (io), 39 RB3 (io), 40 NC, 41 RB4 (io), 42 RB5 (io), 43 RB6 (io), 44 RB7 (io)

## PIC16LC65BT-04I/PQ
designator U?
8-Bit CMOS Microcontroller, 192 Bytes RAM, 33 I/O Pins, 4 MHz, 44-Pin MQFP, Extended VDD Range, Industrial Temperature, Tape and Reel; Note: Verify oscillator characteristics if changing from this device to another.; Note: 2.5 to 5.5V Supply Range in XT, RC and LP osc modes.; Note: 25mA source/sink per I/O.; Published: 11-Oct-2004; LatestRevisionDate: 13-Apr-2006; LatestRevisionNote: IPC-7351 Footprint Added.; DatasheetVersion: DS30605C_2000; PackageVersion: 2003; PackageReference: MQFP-44; Publisher: Altium Limited; PackageDescription: 44-Pin Plastic Metric Quad Flat Pack 0.8 mm Pitch, 1.6/0.15 mm Lead Form; Code_JEDEC: MS-022; Code_IPC: QFP80P1320X1320-44; ComponentLink1Description: Manufacturer Link; ComponentLink1URL: http://www.microchip.com; ComponentLink2Description: Datasheet; ComponentLink2URL: http://ww1.microchip.com/downloads/en/DeviceDoc/30605c.pdf; ComponentLink3Description: Packaging Specification; ComponentLink3URL: http://ww1.microchip.com/downloads/en/PackagingSpec/00049AD.pdf
footprint MQFP-44_N (QFP, 44-Leads, Body 10x10mm, Pitch 0.8mm, IPC Medium Density)
footprint MQFP-44_L (QFP, 44-Leads, Body 10x10mm, Pitch 0.8mm, IPC High Density)
footprint MQFP-44_M (QFP, 44-Leads, Body 10x10mm, Pitch 0.8mm, IPC Low Density)
3D model PIC16LC65B-MQFP-44 (44-Pin Plastic Metric Quad Flat Pack 0.8 mm Pitch, 1.6/0.15 mm Lead Form)
pins: 1 RC7/RX/DT (io), 2 RD4/PSP4 (io), 3 RD5/PSP5 (io), 4 RD6/PSP6 (io), 5 RD7/PSP7 (io), 6 VSS (power), 7 VDD (power), 8 RB0/INT (io), 9 RB1 (io), 10 RB2 (io), 11 RB3 (io), 12 NC, 13 NC, 14 RB4 (io), 15 RB5 (io), 16 RB6 (io), 17 RB7 (io), 18 ~{MCLR}/VPP (in), 19 RA0 (io), 20 RA1 (io), 21 RA2 (io), 22 RA3 (io), 23 RA4/T0CKI (io), 24 RA5/~{SS} (io), 25 RE0/~{RD} (io), 26 RE1/~{WR} (io), 27 RE2/~{CS} (io), 28 VDD (power), 29 VSS (power), 30 OSC1/CLKIN (in), 31 OSC2/CLKOUT (out), 32 RC0/T1OSO/T1CKI (io), 33 NC, 34 NC, 35 RC1/T1OSI/CCP2 (io), 36 RC2/CCP1 (io), 37 RC3/SCK/SCL (io), 38 RD0/PSP0 (io), 39 RD1/PSP1 (io), 40 RD2/PSP2 (io), 41 RD3/PSP3 (io), 42 RC4/SDI/SDA (io), 43 RC5/SDO (io), 44 RC6/TX/CK (io)

## PIC16LC65BT-04I/PT
designator U?
8-Bit CMOS Microcontroller, 192 Bytes RAM, 33 I/O Pins, 4 MHz, 44-Pin TQFP, Extended VDD Range, Industrial Temperature, Tape and Reel; Note: Verify oscillator characteristics if changing from this device to another.; Note: 2.5 to 5.5V Supply Range in XT, RC and LP osc modes.; Note: 25mA source/sink per I/O.; Published: 11-Oct-2004; LatestRevisionDate: 13-Apr-2006; LatestRevisionNote: IPC-7351 Footprint Added.; DatasheetVersion: DS30605C_2000; PackageVersion: 2003; PackageReference: TQFP-44; Publisher: Altium Limited; PackageDescription: 44-Pin Thin Quad Flat Pack 0.8 mm Pitch, 1.0/0.1 mm Lead Form; Code_JEDEC: MS-026; ComponentLink1Description: Manufacturer Link; ComponentLink1URL: http://www.microchip.com; ComponentLink2Description: Datasheet; ComponentLink2URL: http://ww1.microchip.com/downloads/en/DeviceDoc/30605c.pdf; ComponentLink3Description: Packaging Specification; ComponentLink3URL: http://ww1.microchip.com/downloads/en/PackagingSpec/00049AD.pdf
footprint TQFP-44_N (Thin QFP, 44-Leads, Body 10x10mm, Pitch 0.8mm, IPC Medium Density)
footprint TQFP-44_L (Thin QFP, 44-Leads, Body 10x10mm, Pitch 0.8mm, IPC High Density)
footprint TQFP-44_M (Thin QFP, 44-Leads, Body 10x10mm, Pitch 0.8mm, IPC Low Density)
3D model PIC16LC65B-TQFP-44 (44-Pin Thin Quad Flat Pack 0.8 mm Pitch, 1.0/0.1 mm Lead Form)
pins: 1 RC7/RX/DT (io), 2 RD4/PSP4 (io), 3 RD5/PSP5 (io), 4 RD6/PSP6 (io), 5 RD7/PSP7 (io), 6 VSS (power), 7 VDD (power), 8 RB0/INT (io), 9 RB1 (io), 10 RB2 (io), 11 RB3 (io), 12 NC, 13 NC, 14 RB4 (io), 15 RB5 (io), 16 RB6 (io), 17 RB7 (io), 18 ~{MCLR}/VPP (in), 19 RA0 (io), 20 RA1 (io), 21 RA2 (io), 22 RA3 (io), 23 RA4/T0CKI (io), 24 RA5/~{SS} (io), 25 RE0/~{RD} (io), 26 RE1/~{WR} (io), 27 RE2/~{CS} (io), 28 VDD (power), 29 VSS (power), 30 OSC1/CLKIN (in), 31 OSC2/CLKOUT (out), 32 RC0/T1OSO/T1CKI (io), 33 NC, 34 NC, 35 RC1/T1OSI/CCP2 (io), 36 RC2/CCP1 (io), 37 RC3/SCK/SCL (io), 38 RD0/PSP0 (io), 39 RD1/PSP1 (io), 40 RD2/PSP2 (io), 41 RD3/PSP3 (io), 42 RC4/SDI/SDA (io), 43 RC5/SDO (io), 44 RC6/TX/CK (io)

## PIC16LC71-04/P
designator U?
8-Bit CMOS Microcontroller with A/D Converter, 1K (x14-Bit words) EPROM, 36 Bytes RAM, 4 MHz, 18-Pin PDIP, Extended VDD Range, Commercial Temperature; Note: Not available in SSOP package.; Note: Not recommended for new designs. Consider PIC16C712 instead.; Published: 11-Oct-2004; LatestRevisionDate: 04-Mar-2005; LatestRevisionNote: Stylized 3D Model Added.; DatasheetVersion: DS30272A_1997; PackageVersion: 2003; PackageReference: PDIP300-18; Publisher: Altium Limited; PackageDescription: DIP, Plastic; 18 Leads; Row Spacing 7.62 mm; Pitch 2.54 mm; Code_JEDEC: MS-001; ComponentLink1Description: Manufacturer Link; ComponentLink1URL: http://www.microchip.com; ComponentLink2Description: Datasheet; ComponentLink2URL: http://ww1.microchip.com/downloads/en/DeviceDoc/30272a.pdf; ComponentLink3Description: Packaging Specification; ComponentLink3URL: http://ww1.microchip.com/downloads/en/PackagingSpec/00049AD.pdf
footprint PDIP300-18 (DIP, Plastic; 18 Leads; Row Spacing 7.62 mm; Pitch 2.54 mm)
3D model PDIP300-18 (DIP, Plastic; 18 Leads; Row Spacing 7.62 mm; Pitch 2.54 mm)
pins: 1 RA2/AN2 (io), 2 RA3/AN3/VREF (io), 3 RA4/T0CKI (io), 4 ~{MCLR}/VPP (in), 5 VSS (power), 6 RB0/INT (io), 7 RB1 (io), 8 RB2 (io), 9 RB3 (io), 10 RB4 (io), 11 RB5 (io), 12 RB6 (io), 13 RB7 (io), 14 VDD (power), 15 OSC2/CLKOUT (out), 16 OSC1/CLKIN (in), 17 RA0/AN0 (io), 18 RA1/AN1 (io)

## PIC16LC71-04/SO
designator U?
8-Bit CMOS Microcontroller with A/D Converter, 1K (x14-Bit words) EPROM, 36 Bytes RAM, 4 MHz, 18-Pin SOIC, Extended VDD Range, Commercial Temperature; Note: Not available in SSOP package.; Note: Not recommended for new designs. Consider PIC16C712 instead.; Published: 11-Oct-2004; LatestRevisionDate: 13-Apr-2006; LatestRevisionNote: IPC-7351 Footprint Added.; DatasheetVersion: DS30272A_1997; PackageVersion: 2003; PackageReference: SOIC300-18; Publisher: Altium Limited; PackageDescription: 18-Pin Small Outline Integrated Circuit 1.27 mm Pitch; Code_JEDEC: MS-013; ComponentLink1Description: Manufacturer Link; ComponentLink1URL: http://www.microchip.com; ComponentLink2Description: Datasheet; ComponentLink2URL: http://ww1.microchip.com/downloads/en/DeviceDoc/30272a.pdf; ComponentLink3Description: Packaging Specification; ComponentLink3URL: http://ww1.microchip.com/downloads/en/PackagingSpec/00049AD.pdf
footprint SOIC300-18_N (SOIC, 18-Leads, Body 11.5x7.5mm, Pitch 1.27mm, IPC Medium Density)
footprint SOIC300-18_L (SOIC, 18-Leads, Body 11.5x7.5mm, Pitch 1.27mm, IPC High Density)
footprint SOIC300-18_M (SOIC, 18-Leads, Body 11.5x7.5mm, Pitch 1.27mm, IPC Low Density)
3D model SOIC300-18 (18-Pin Small Outline Integrated Circuit 1.27 mm Pitch)
pins: 1 RA2/AN2 (io), 2 RA3/AN3/VREF (io), 3 RA4/T0CKI (io), 4 ~{MCLR}/VPP (in), 5 VSS (power), 6 RB0/INT (io), 7 RB1 (io), 8 RB2 (io), 9 RB3 (io), 10 RB4 (io), 11 RB5 (io), 12 RB6 (io), 13 RB7 (io), 14 VDD (power), 15 OSC2/CLKOUT (out), 16 OSC1/CLKIN (in), 17 RA0/AN0 (io), 18 RA1/AN1 (io)

## PIC16LC71-04I/P
designator U?
8-Bit CMOS Microcontroller with A/D Converter, 1K (x14-Bit words) EPROM, 36 Bytes RAM, 4 MHz, 18-Pin PDIP, Extended VDD Range, Industrial Temperature; Note: Not available in SSOP package.; Note: Not recommended for new designs. Consider PIC16C712 instead.; Published: 11-Oct-2004; LatestRevisionDate: 04-Mar-2005; LatestRevisionNote: Stylized 3D Model Added.; DatasheetVersion: DS30272A_1997; PackageVersion: 2003; PackageReference: PDIP300-18; Publisher: Altium Limited; PackageDescription: DIP, Plastic; 18 Leads; Row Spacing 7.62 mm; Pitch 2.54 mm; Code_JEDEC: MS-001; ComponentLink1Description: Manufacturer Link; ComponentLink1URL: http://www.microchip.com; ComponentLink2Description: Datasheet; ComponentLink2URL: http://ww1.microchip.com/downloads/en/DeviceDoc/30272a.pdf; ComponentLink3Description: Packaging Specification; ComponentLink3URL: http://ww1.microchip.com/downloads/en/PackagingSpec/00049AD.pdf
footprint PDIP300-18 (DIP, Plastic; 18 Leads; Row Spacing 7.62 mm; Pitch 2.54 mm)
3D model PDIP300-18 (DIP, Plastic; 18 Leads; Row Spacing 7.62 mm; Pitch 2.54 mm)
pins: 1 RA2/AN2 (io), 2 RA3/AN3/VREF (io), 3 RA4/T0CKI (io), 4 ~{MCLR}/VPP (in), 5 VSS (power), 6 RB0/INT (io), 7 RB1 (io), 8 RB2 (io), 9 RB3 (io), 10 RB4 (io), 11 RB5 (io), 12 RB6 (io), 13 RB7 (io), 14 VDD (power), 15 OSC2/CLKOUT (out), 16 OSC1/CLKIN (in), 17 RA0/AN0 (io), 18 RA1/AN1 (io)

## PIC16LC71-04I/SO
designator U?
8-Bit CMOS Microcontroller with A/D Converter, 1K (x14-Bit words) EPROM, 36 Bytes RAM, 4 MHz, 18-Pin SOIC, Extended VDD Range, Industrial Temperature; Note: Not available in SSOP package.; Note: Not recommended for new designs. Consider PIC16C712 instead.; Published: 11-Oct-2004; LatestRevisionDate: 13-Apr-2006; LatestRevisionNote: IPC-7351 Footprint Added.; DatasheetVersion: DS30272A_1997; PackageVersion: 2003; PackageReference: SOIC300-18; Publisher: Altium Limited; PackageDescription: 18-Pin Small Outline Integrated Circuit 1.27 mm Pitch; Code_JEDEC: MS-013; ComponentLink1Description: Manufacturer Link; ComponentLink1URL: http://www.microchip.com; ComponentLink2Description: Datasheet; ComponentLink2URL: http://ww1.microchip.com/downloads/en/DeviceDoc/30272a.pdf; ComponentLink3Description: Packaging Specification; ComponentLink3URL: http://ww1.microchip.com/downloads/en/PackagingSpec/00049AD.pdf
footprint SOIC300-18_N (SOIC, 18-Leads, Body 11.5x7.5mm, Pitch 1.27mm, IPC Medium Density)
footprint SOIC300-18_L (SOIC, 18-Leads, Body 11.5x7.5mm, Pitch 1.27mm, IPC High Density)
footprint SOIC300-18_M (SOIC, 18-Leads, Body 11.5x7.5mm, Pitch 1.27mm, IPC Low Density)
3D model SOIC300-18 (18-Pin Small Outline Integrated Circuit 1.27 mm Pitch)
pins: 1 RA2/AN2 (io), 2 RA3/AN3/VREF (io), 3 RA4/T0CKI (io), 4 ~{MCLR}/VPP (in), 5 VSS (power), 6 RB0/INT (io), 7 RB1 (io), 8 RB2 (io), 9 RB3 (io), 10 RB4 (io), 11 RB5 (io), 12 RB6 (io), 13 RB7 (io), 14 VDD (power), 15 OSC2/CLKOUT (out), 16 OSC1/CLKIN (in), 17 RA0/AN0 (io), 18 RA1/AN1 (io)

## PIC16LC71T-04I/SO
designator U?
8-Bit CMOS Microcontroller with A/D Converter, 1K (x14-Bit words) EPROM, 36 Bytes RAM, 4 MHz, 18-Pin SOIC, Extended VDD Range, Industrial Temperature, Tape and Reel; Note: Not available in SSOP package.; Published: 11-Oct-2004; LatestRevisionDate: 13-Apr-2006; LatestRevisionNote: IPC-7351 Footprint Added.; DatasheetVersion: DS30272A_1997; PackageVersion: 2003; PackageReference: SOIC300-18; Publisher: Altium Limited; PackageDescription: 18-Pin Small Outline Integrated Circuit 1.27 mm Pitch; Code_JEDEC: MS-013; ComponentLink1Description: Manufacturer Link; ComponentLink1URL: http://www.microchip.com; ComponentLink2Description: Datasheet; ComponentLink2URL: http://ww1.microchip.com/downloads/en/DeviceDoc/30272a.pdf; ComponentLink3Description: Packaging Specification; ComponentLink3URL: http://ww1.microchip.com/downloads/en/PackagingSpec/00049AD.pdf
footprint SOIC300-18_N (SOIC, 18-Leads, Body 11.5x7.5mm, Pitch 1.27mm, IPC Medium Density)
footprint SOIC300-18_L (SOIC, 18-Leads, Body 11.5x7.5mm, Pitch 1.27mm, IPC High Density)
footprint SOIC300-18_M (SOIC, 18-Leads, Body 11.5x7.5mm, Pitch 1.27mm, IPC Low Density)
3D model SOIC300-18 (18-Pin Small Outline Integrated Circuit 1.27 mm Pitch)
pins: 1 RA2/AN2 (io), 2 RA3/AN3/VREF (io), 3 RA4/T0CKI (io), 4 ~{MCLR}/VPP (in), 5 VSS (power), 6 RB0/INT (io), 7 RB1 (io), 8 RB2 (io), 9 RB3 (io), 10 RB4 (io), 11 RB5 (io), 12 RB6 (io), 13 RB7 (io), 14 VDD (power), 15 OSC2/CLKOUT (out), 16 OSC1/CLKIN (in), 17 RA0/AN0 (io), 18 RA1/AN1 (io)

## PIC16LC72A-04/SO
designator U?
8-Bit CMOS Microcontroller, 128 Bytes RAM, 8-Bit A/D Module, 4 MHz, 28-Pin SOIC, Extended VDD Range, Commercial Temperature; Note: 2.5 to 5.5V Supply Range in XT, RC and LP osc modes.; Published: 11-Oct-2004; LatestRevisionDate: 13-Apr-2006; LatestRevisionNote: IPC-7351 Footprint Added.; DatasheetVersion: DS35008B_1999; PackageVersion: 2005; PackageReference: SOIC300-28; Publisher: Altium Limited; PackageDescription: 28-Pin Small Outline Integrated Circuit 1.27 mm Pitch; Code_JEDEC: MS-013; ComponentLink1Description: Manufacturer Link; ComponentLink1URL: http://www.microchip.com; ComponentLink2Description: Datasheet; ComponentLink2URL: http://ww1.microchip.com/downloads/en/DeviceDoc/35008b.pdf; ComponentLink3Description: Packaging Specification; ComponentLink3URL: http://ww1.microchip.com/downloads/en/PackagingSpec/00049AD.pdf
footprint SOIC300-28_N (SOIC, 28-Leads, Body 17.9x7.5mm, Pitch 1.27mm, IPC Medium Density)
footprint SOIC300-28_L (SOIC, 28-Leads, Body 17.9x7.5mm, Pitch 1.27mm, IPC High Density)
footprint SOIC300-28_M (SOIC, 28-Leads, Body 17.9x7.5mm, Pitch 1.27mm, IPC Low Density)
3D model SOIC300-28 (28-Pin Small Outline Integrated Circuit 1.27 mm Pitch)
pins: 1 ~{MCLR}/VPP (in), 2 RA0/AN0 (io), 3 RA1/AN1 (io), 4 RA2/AN2 (io), 5 RA3/AN3/VREF (io), 6 RA4/T0CKI (io), 7 RA5/~{SS}/AN4 (io), 8 VSS (power), 9 OSC1/CLKIN (in), 10 OSC2/CLKOUT (out), 11 RC0/T1OSO/T1CKI (io), 12 RC1/T1OSI (io), 13 RC2/CCP1 (io), 14 RC3/SCK/SCL (io), 15 RC4/SDI/SDA (io), 16 RC5/SDO (io), 17 RC6 (io), 18 RC7 (io), 19 VSS (power), 20 VDD (power), 21 RB0/INT (io), 22 RB1 (io), 23 RB2 (io), 24 RB3 (io), 25 RB4 (io), 26 RB5 (io), 27 RB6 (io), 28 RB7 (io)

## PIC16LC72A-04/SP
designator U?
8-Bit CMOS Microcontroller, 128 Bytes RAM, 8-Bit A/D Module, 4 MHz, 28-Pin PDIP 300mil, Extended VDD Range, Commercial Temperature; Note: 2.5 to 5.5V Supply Range in XT, RC and LP osc modes.; Published: 11-Oct-2004; LatestRevisionDate: 04-Mar-2005; LatestRevisionNote: Stylized 3D Model Added.; DatasheetVersion: DS35008B_1999; PackageVersion: 2003; PackageReference: PDIP300-28; Publisher: Altium Limited; PackageDescription: DIP, Plastic, Skinny; 28 Leads; Row Spacing 7.62 mm; Pitch 2.54 mm; Code_JEDEC: MO-095; ComponentLink1Description: Manufacturer Link; ComponentLink1URL: http://www.microchip.com; ComponentLink2Description: Datasheet; ComponentLink2URL: http://ww1.microchip.com/downloads/en/DeviceDoc/35008b.pdf; ComponentLink3Description: Packaging Specification; ComponentLink3URL: http://ww1.microchip.com/downloads/en/PackagingSpec/00049AD.pdf
footprint PDIP300-28 (DIP, Plastic, Skinny; 28 Leads; Row Spacing 7.62 mm; Pitch 2.54 mm)
3D model PDIP300-28 (DIP, Plastic, Skinny; 28 Leads; Row Spacing 7.62 mm; Pitch 2.54 mm)
pins: 1 ~{MCLR}/VPP (in), 2 RA0/AN0 (io), 3 RA1/AN1 (io), 4 RA2/AN2 (io), 5 RA3/AN3/VREF (io), 6 RA4/T0CKI (io), 7 RA5/~{SS}/AN4 (io), 8 VSS (power), 9 OSC1/CLKIN (in), 10 OSC2/CLKOUT (out), 11 RC0/T1OSO/T1CKI (io), 12 RC1/T1OSI (io), 13 RC2/CCP1 (io), 14 RC3/SCK/SCL (io), 15 RC4/SDI/SDA (io), 16 RC5/SDO (io), 17 RC6 (io), 18 RC7 (io), 19 VSS (power), 20 VDD (power), 21 RB0/INT (io), 22 RB1 (io), 23 RB2 (io), 24 RB3 (io), 25 RB4 (io), 26 RB5 (io), 27 RB6 (io), 28 RB7 (io)

## PIC16LC72A-04/SS
designator U?
8-Bit CMOS Microcontroller, 128 Bytes RAM, 8-Bit A/D Module, 4 MHz, 28-Pin SSOP, Extended VDD Range, Commercial Temperature; Note: 2.5 to 5.5V Supply Range in XT, RC and LP osc modes.; Published: 11-Oct-2004; LatestRevisionDate: 04-Mar-2005; LatestRevisionNote: Stylized 3D Model Added.; DatasheetVersion: DS35008B_1999; PackageVersion: 2005; PackageReference: SSOP-28; Publisher: Altium Limited; PackageDescription: SSOP, Plastic; 28 Leads; Body Width 5.2 mm; Pitch 0.65 mm; Code_JEDEC: MS-150; ComponentLink1Description: Manufacturer Link; ComponentLink1URL: http://www.microchip.com; ComponentLink2Description: Datasheet; ComponentLink2URL: http://ww1.microchip.com/downloads/en/DeviceDoc/35008b.pdf; ComponentLink3Description: Packaging Specification; ComponentLink3URL: http://ww1.microchip.com/downloads/en/PackagingSpec/00049AD.pdf
footprint SSOP-28 (SSOP, Plastic; 28 Leads; Body Width 5.2 mm; Pitch 0.65 mm)
3D model SSOP-28 (SSOP, Plastic; 28 Leads; Body Width 5.2 mm; Pitch 0.65 mm)
pins: 1 ~{MCLR}/VPP (in), 2 RA0/AN0 (io), 3 RA1/AN1 (io), 4 RA2/AN2 (io), 5 RA3/AN3/VREF (io), 6 RA4/T0CKI (io), 7 RA5/~{SS}/AN4 (io), 8 VSS (power), 9 OSC1/CLKIN (in), 10 OSC2/CLKOUT (out), 11 RC0/T1OSO/T1CKI (io), 12 RC1/T1OSI (io), 13 RC2/CCP1 (io), 14 RC3/SCK/SCL (io), 15 RC4/SDI/SDA (io), 16 RC5/SDO (io), 17 RC6 (io), 18 RC7 (io), 19 VSS (power), 20 VDD (power), 21 RB0/INT (io), 22 RB1 (io), 23 RB2 (io), 24 RB3 (io), 25 RB4 (io), 26 RB5 (io), 27 RB6 (io), 28 RB7 (io)

## PIC16LC72A-04I/SO
designator U?
8-Bit CMOS Microcontroller, 128 Bytes RAM, 8-Bit A/D Module, 4 MHz, 28-Pin SOIC, Extended VDD Range, Industrial Temperature; Note: 2.5 to 5.5V Supply Range in XT, RC and LP osc modes.; Published: 11-Oct-2004; LatestRevisionDate: 13-Apr-2006; LatestRevisionNote: IPC-7351 Footprint Added.; DatasheetVersion: DS35008B_1999; PackageVersion: 2005; PackageReference: SOIC300-28; Publisher: Altium Limited; PackageDescription: 28-Pin Small Outline Integrated Circuit 1.27 mm Pitch; Code_JEDEC: MS-013; ComponentLink1Description: Manufacturer Link; ComponentLink1URL: http://www.microchip.com; ComponentLink2Description: Datasheet; ComponentLink2URL: http://ww1.microchip.com/downloads/en/DeviceDoc/35008b.pdf; ComponentLink3Description: Packaging Specification; ComponentLink3URL: http://ww1.microchip.com/downloads/en/PackagingSpec/00049AD.pdf
footprint SOIC300-28_N (SOIC, 28-Leads, Body 17.9x7.5mm, Pitch 1.27mm, IPC Medium Density)
footprint SOIC300-28_L (SOIC, 28-Leads, Body 17.9x7.5mm, Pitch 1.27mm, IPC High Density)
footprint SOIC300-28_M (SOIC, 28-Leads, Body 17.9x7.5mm, Pitch 1.27mm, IPC Low Density)
3D model SOIC300-28 (28-Pin Small Outline Integrated Circuit 1.27 mm Pitch)
pins: 1 ~{MCLR}/VPP (in), 2 RA0/AN0 (io), 3 RA1/AN1 (io), 4 RA2/AN2 (io), 5 RA3/AN3/VREF (io), 6 RA4/T0CKI (io), 7 RA5/~{SS}/AN4 (io), 8 VSS (power), 9 OSC1/CLKIN (in), 10 OSC2/CLKOUT (out), 11 RC0/T1OSO/T1CKI (io), 12 RC1/T1OSI (io), 13 RC2/CCP1 (io), 14 RC3/SCK/SCL (io), 15 RC4/SDI/SDA (io), 16 RC5/SDO (io), 17 RC6 (io), 18 RC7 (io), 19 VSS (power), 20 VDD (power), 21 RB0/INT (io), 22 RB1 (io), 23 RB2 (io), 24 RB3 (io), 25 RB4 (io), 26 RB5 (io), 27 RB6 (io), 28 RB7 (io)

## PIC16LC72A-04I/SP
designator U?
8-Bit CMOS Microcontroller, 128 Bytes RAM, 8-Bit A/D Module, 4 MHz, 28-Pin PDIP 300mil, Extended VDD Range, Industrial Temperature; Note: 2.5 to 5.5V Supply Range in XT, RC and LP osc modes.; Published: 11-Oct-2004; LatestRevisionDate: 04-Mar-2005; LatestRevisionNote: Stylized 3D Model Added.; DatasheetVersion: DS35008B_1999; PackageVersion: 2003; PackageReference: PDIP300-28; Publisher: Altium Limited; PackageDescription: DIP, Plastic, Skinny; 28 Leads; Row Spacing 7.62 mm; Pitch 2.54 mm; Code_JEDEC: MO-095; ComponentLink1Description: Manufacturer Link; ComponentLink1URL: http://www.microchip.com; ComponentLink2Description: Datasheet; ComponentLink2URL: http://ww1.microchip.com/downloads/en/DeviceDoc/35008b.pdf; ComponentLink3Description: Packaging Specification; ComponentLink3URL: http://ww1.microchip.com/downloads/en/PackagingSpec/00049AD.pdf
footprint PDIP300-28 (DIP, Plastic, Skinny; 28 Leads; Row Spacing 7.62 mm; Pitch 2.54 mm)
3D model PDIP300-28 (DIP, Plastic, Skinny; 28 Leads; Row Spacing 7.62 mm; Pitch 2.54 mm)
pins: 1 ~{MCLR}/VPP (in), 2 RA0/AN0 (io), 3 RA1/AN1 (io), 4 RA2/AN2 (io), 5 RA3/AN3/VREF (io), 6 RA4/T0CKI (io), 7 RA5/~{SS}/AN4 (io), 8 VSS (power), 9 OSC1/CLKIN (in), 10 OSC2/CLKOUT (out), 11 RC0/T1OSO/T1CKI (io), 12 RC1/T1OSI (io), 13 RC2/CCP1 (io), 14 RC3/SCK/SCL (io), 15 RC4/SDI/SDA (io), 16 RC5/SDO (io), 17 RC6 (io), 18 RC7 (io), 19 VSS (power), 20 VDD (power), 21 RB0/INT (io), 22 RB1 (io), 23 RB2 (io), 24 RB3 (io), 25 RB4 (io), 26 RB5 (io), 27 RB6 (io), 28 RB7 (io)

## PIC16LC72A-04I/SS
designator U?
8-Bit CMOS Microcontroller, 128 Bytes RAM, 8-Bit A/D Module, 4 MHz, 28-Pin SSOP, Extended VDD Range, Industrial Temperature; Note: 2.5 to 5.5V Supply Range in XT, RC and LP osc modes.; Published: 11-Oct-2004; LatestRevisionDate: 04-Mar-2005; LatestRevisionNote: Stylized 3D Model Added.; DatasheetVersion: DS35008B_1999; PackageVersion: 2005; PackageReference: SSOP-28; Publisher: Altium Limited; PackageDescription: SSOP, Plastic; 28 Leads; Body Width 5.2 mm; Pitch 0.65 mm; Code_JEDEC: MS-150; ComponentLink1Description: Manufacturer Link; ComponentLink1URL: http://www.microchip.com; ComponentLink2Description: Datasheet; ComponentLink2URL: http://ww1.microchip.com/downloads/en/DeviceDoc/35008b.pdf; ComponentLink3Description: Packaging Specification; ComponentLink3URL: http://ww1.microchip.com/downloads/en/PackagingSpec/00049AD.pdf
footprint SSOP-28 (SSOP, Plastic; 28 Leads; Body Width 5.2 mm; Pitch 0.65 mm)
3D model SSOP-28 (SSOP, Plastic; 28 Leads; Body Width 5.2 mm; Pitch 0.65 mm)
pins: 1 ~{MCLR}/VPP (in), 2 RA0/AN0 (io), 3 RA1/AN1 (io), 4 RA2/AN2 (io), 5 RA3/AN3/VREF (io), 6 RA4/T0CKI (io), 7 RA5/~{SS}/AN4 (io), 8 VSS (power), 9 OSC1/CLKIN (in), 10 OSC2/CLKOUT (out), 11 RC0/T1OSO/T1CKI (io), 12 RC1/T1OSI (io), 13 RC2/CCP1 (io), 14 RC3/SCK/SCL (io), 15 RC4/SDI/SDA (io), 16 RC5/SDO (io), 17 RC6 (io), 18 RC7 (io), 19 VSS (power), 20 VDD (power), 21 RB0/INT (io), 22 RB1 (io), 23 RB2 (io), 24 RB3 (io), 25 RB4 (io), 26 RB5 (io), 27 RB6 (io), 28 RB7 (io)

## PIC16LC72AT-04/SO
designator U?
8-Bit CMOS Microcontroller, 128 Bytes RAM, 8-Bit A/D Module, 4 MHz, 28-Pin SOIC, Extended VDD Range, Commercial Temperature, Tape and Reel; Note: 2.5 to 5.5V Supply Range in XT, RC and LP osc modes.; Published: 11-Oct-2004; LatestRevisionDate: 13-Apr-2006; LatestRevisionNote: IPC-7351 Footprint Added.; DatasheetVersion: DS35008B_1999; PackageVersion: 2005; PackageReference: SOIC300-28; Publisher: Altium Limited; PackageDescription: 28-Pin Small Outline Integrated Circuit 1.27 mm Pitch; Code_JEDEC: MS-013; ComponentLink1Description: Manufacturer Link; ComponentLink1URL: http://www.microchip.com; ComponentLink2Description: Datasheet; ComponentLink2URL: http://ww1.microchip.com/downloads/en/DeviceDoc/35008b.pdf; ComponentLink3Description: Packaging Specification; ComponentLink3URL: http://ww1.microchip.com/downloads/en/PackagingSpec/00049AD.pdf
footprint SOIC300-28_N (SOIC, 28-Leads, Body 17.9x7.5mm, Pitch 1.27mm, IPC Medium Density)
footprint SOIC300-28_L (SOIC, 28-Leads, Body 17.9x7.5mm, Pitch 1.27mm, IPC High Density)
footprint SOIC300-28_M (SOIC, 28-Leads, Body 17.9x7.5mm, Pitch 1.27mm, IPC Low Density)
3D model SOIC300-28 (28-Pin Small Outline Integrated Circuit 1.27 mm Pitch)
pins: 1 ~{MCLR}/VPP (in), 2 RA0/AN0 (io), 3 RA1/AN1 (io), 4 RA2/AN2 (io), 5 RA3/AN3/VREF (io), 6 RA4/T0CKI (io), 7 RA5/~{SS}/AN4 (io), 8 VSS (power), 9 OSC1/CLKIN (in), 10 OSC2/CLKOUT (out), 11 RC0/T1OSO/T1CKI (io), 12 RC1/T1OSI (io), 13 RC2/CCP1 (io), 14 RC3/SCK/SCL (io), 15 RC4/SDI/SDA (io), 16 RC5/SDO (io), 17 RC6 (io), 18 RC7 (io), 19 VSS (power), 20 VDD (power), 21 RB0/INT (io), 22 RB1 (io), 23 RB2 (io), 24 RB3 (io), 25 RB4 (io), 26 RB5 (io), 27 RB6 (io), 28 RB7 (io)

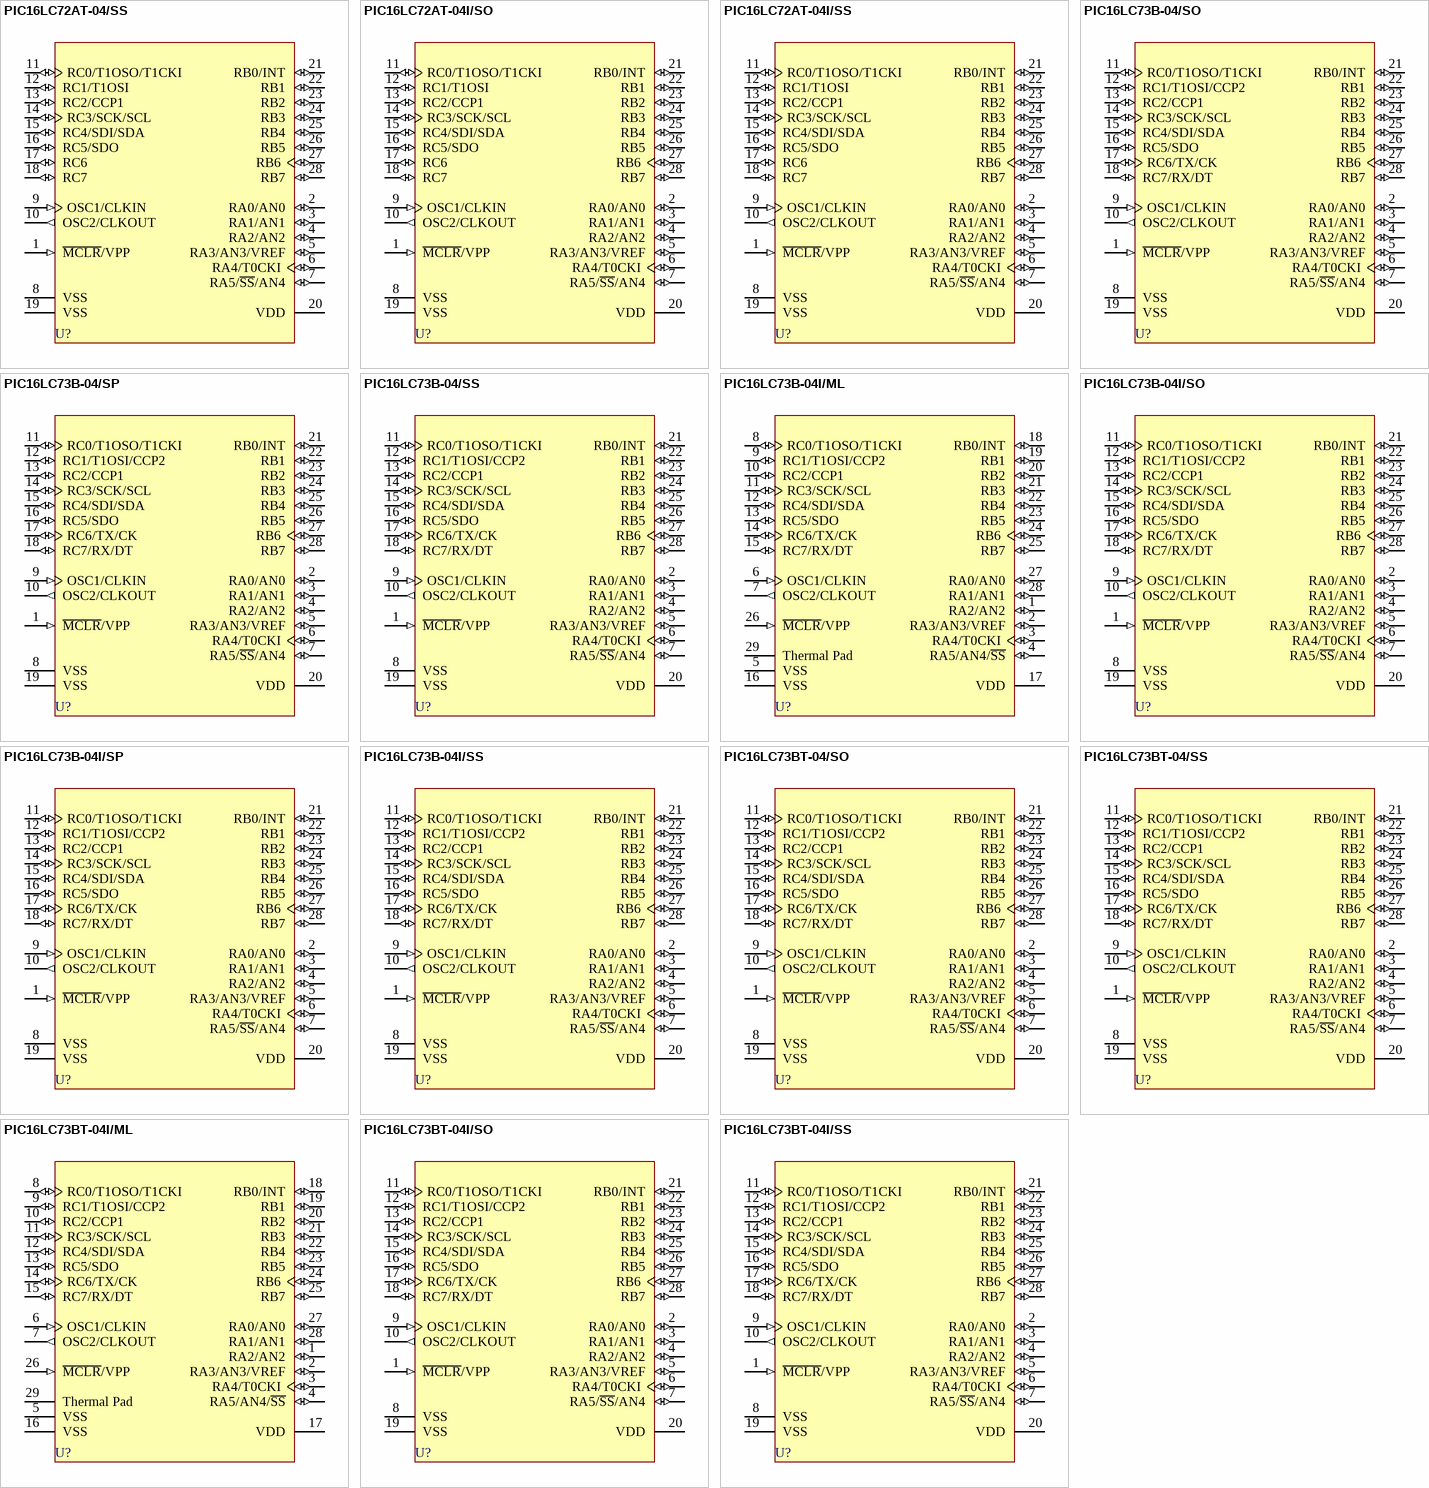
[diagram p88: symbols PIC16LC72AT-04/SS to PIC16LC73BT-04I/SS]

## PIC16LC72AT-04/SS
designator U?
8-Bit CMOS Microcontroller, 128 Bytes RAM, 8-Bit A/D Module, 4 MHz, 28-Pin SSOP, Extended VDD Range, Commercial Temperature, Tape and Reel; Note: 2.5 to 5.5V Supply Range in XT, RC and LP osc modes.; Published: 11-Oct-2004; LatestRevisionDate: 04-Mar-2005; LatestRevisionNote: Stylized 3D Model Added.; DatasheetVersion: DS35008B_1999; PackageVersion: 2005; PackageReference: SSOP-28; Publisher: Altium Limited; PackageDescription: SSOP, Plastic; 28 Leads; Body Width 5.2 mm; Pitch 0.65 mm; Code_JEDEC: MS-150; ComponentLink1Description: Manufacturer Link; ComponentLink1URL: http://www.microchip.com; ComponentLink2Description: Datasheet; ComponentLink2URL: http://ww1.microchip.com/downloads/en/DeviceDoc/35008b.pdf; ComponentLink3Description: Packaging Specification; ComponentLink3URL: http://ww1.microchip.com/downloads/en/PackagingSpec/00049AD.pdf
footprint SSOP-28 (SSOP, Plastic; 28 Leads; Body Width 5.2 mm; Pitch 0.65 mm)
3D model SSOP-28 (SSOP, Plastic; 28 Leads; Body Width 5.2 mm; Pitch 0.65 mm)
pins: 1 ~{MCLR}/VPP (in), 2 RA0/AN0 (io), 3 RA1/AN1 (io), 4 RA2/AN2 (io), 5 RA3/AN3/VREF (io), 6 RA4/T0CKI (io), 7 RA5/~{SS}/AN4 (io), 8 VSS (power), 9 OSC1/CLKIN (in), 10 OSC2/CLKOUT (out), 11 RC0/T1OSO/T1CKI (io), 12 RC1/T1OSI (io), 13 RC2/CCP1 (io), 14 RC3/SCK/SCL (io), 15 RC4/SDI/SDA (io), 16 RC5/SDO (io), 17 RC6 (io), 18 RC7 (io), 19 VSS (power), 20 VDD (power), 21 RB0/INT (io), 22 RB1 (io), 23 RB2 (io), 24 RB3 (io), 25 RB4 (io), 26 RB5 (io), 27 RB6 (io), 28 RB7 (io)